# Altium integrated library Xilinx Virtex-II Pro X FPGA.IntLib: 1045 symbols (part 6 of 8)
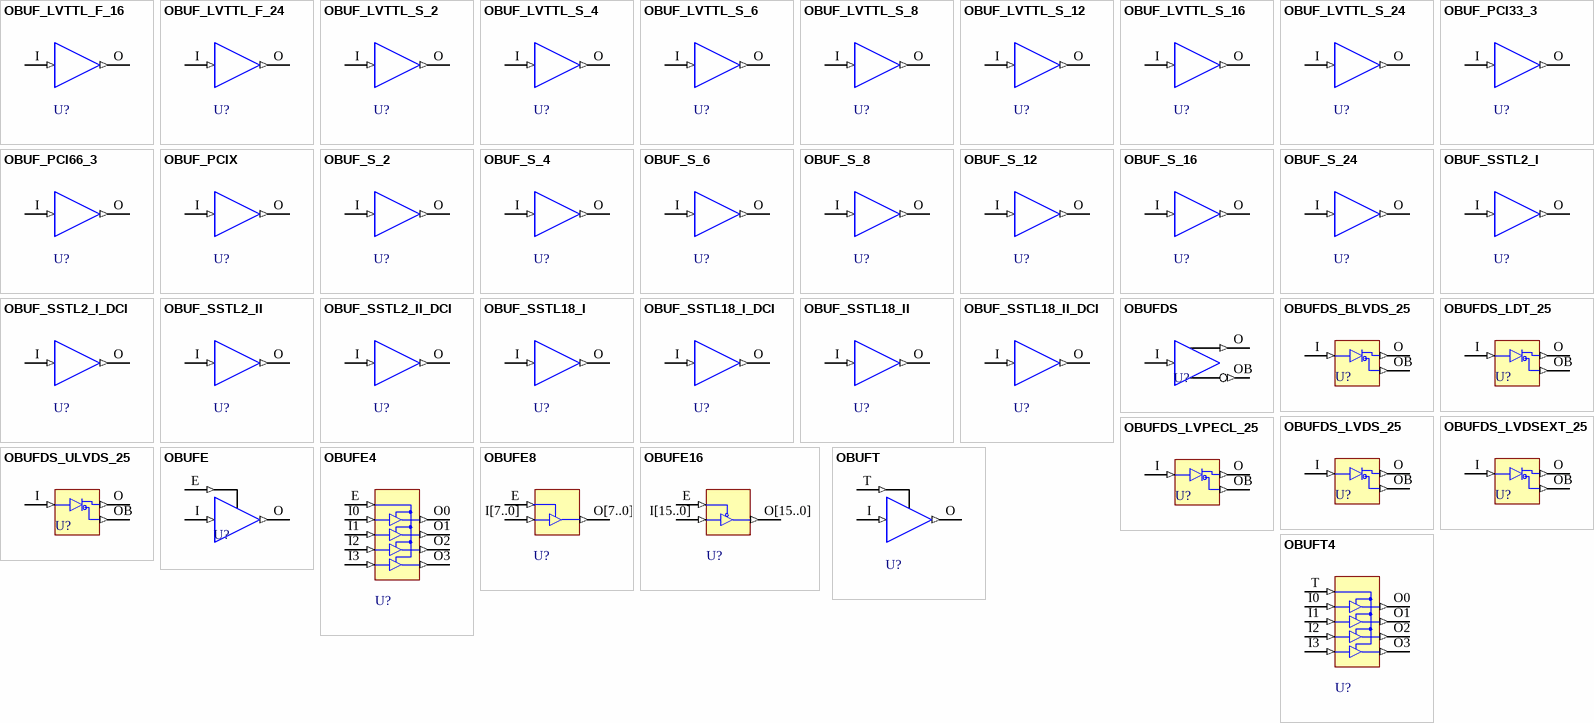
[diagram p40: symbols OBUF_LVTTL_F_16 to OBUFT4]

## OBUF_LVTTL_F_24
designator U?
Output Buffer ( Low Voltage TTL) with a FAST slew and 24mA of drive power.; FPGAVendor: Xilinx; Published: 15-Sep-2003; Publisher: Altium Limited; HelpURL: http://toolbox.xilinx.com/docsan/xilinx7/books/docs/lib/lib.pdf
pins: I (in), O (out)

## OBUF_LVTTL_S_2
designator U?
Output Buffer ( Low Voltage TTL) with a SLOW slew and 2mA of drive power.; FPGAVendor: Xilinx; Published: 15-Sep-2003; Publisher: Altium Limited; HelpURL: http://toolbox.xilinx.com/docsan/xilinx7/books/docs/lib/lib.pdf
pins: I (in), O (out)

## OBUF_LVTTL_S_4
designator U?
Output Buffer ( Low Voltage TTL) with a SLOW slew and 4mA of drive power.; FPGAVendor: Xilinx; Published: 15-Sep-2003; Publisher: Altium Limited; HelpURL: http://toolbox.xilinx.com/docsan/xilinx7/books/docs/lib/lib.pdf
pins: I (in), O (out)

## OBUF_LVTTL_S_6
designator U?
Output Buffer ( Low Voltage TTL) with a SLOW slew and 6mA of drive power.; FPGAVendor: Xilinx; Published: 15-Sep-2003; Publisher: Altium Limited; HelpURL: http://toolbox.xilinx.com/docsan/xilinx7/books/docs/lib/lib.pdf
pins: I (in), O (out)

## OBUF_LVTTL_S_8
designator U?
Output Buffer ( Low Voltage TTL) with a SLOW slew and 8mA of drive power.; FPGAVendor: Xilinx; Published: 15-Sep-2003; Publisher: Altium Limited; HelpURL: http://toolbox.xilinx.com/docsan/xilinx7/books/docs/lib/lib.pdf
pins: I (in), O (out)

## OBUF_LVTTL_S_12
designator U?
Output Buffer ( Low Voltage TTL) with a SLOW slew and 12mA of drive power.; FPGAVendor: Xilinx; Published: 15-Sep-2003; Publisher: Altium Limited; HelpURL: http://toolbox.xilinx.com/docsan/xilinx7/books/docs/lib/lib.pdf
pins: I (in), O (out)

## OBUF_LVTTL_S_16
designator U?
Output Buffer ( Low Voltage TTL) with a SLOW slew and 16mA of drive power.; FPGAVendor: Xilinx; Published: 15-Sep-2003; Publisher: Altium Limited; HelpURL: http://toolbox.xilinx.com/docsan/xilinx7/books/docs/lib/lib.pdf
pins: I (in), O (out)

## OBUF_LVTTL_S_24
designator U?
Output Buffer ( Low Voltage TTL) with a SLOW slew and 24mA of drive power.; FPGAVendor: Xilinx; Published: 15-Sep-2003; Publisher: Altium Limited; HelpURL: http://toolbox.xilinx.com/docsan/xilinx7/books/docs/lib/lib.pdf
pins: I (in), O (out)

## OBUF_PCI33_3
designator U?
Single Output Buffer using the PCI33_3 standard; FPGAVendor: Xilinx; Published: 15-Sep-2003; Publisher: Altium Limited; HelpURL: http://toolbox.xilinx.com/docsan/xilinx7/books/docs/lib/lib.pdf
pins: I (in), O (out)

## OBUF_PCI66_3
designator U?
Single Output Buffer using the PCI66_3 standard; FPGAVendor: Xilinx; Published: 15-Sep-2003; Publisher: Altium Limited; HelpURL: http://toolbox.xilinx.com/docsan/xilinx7/books/docs/lib/lib.pdf
pins: I (in), O (out)

## OBUF_PCIX
designator U?
Output Buffer with Peripheral component interface.  Output VCCO = 3.3; FPGAVendor: Xilinx; Published: 15-Sep-2003; Publisher: Altium Limited; HelpURL: http://toolbox.xilinx.com/docsan/xilinx7/books/docs/lib/lib.pdf
pins: I (in), O (out)

## OBUF_S_2
designator U?
Single Output Buffer using the  LVTTL standard; FPGAVendor: Xilinx; Published: 15-Sep-2003; Publisher: Altium Limited; HelpURL: http://toolbox.xilinx.com/docsan/xilinx7/books/docs/lib/lib.pdf
pins: I (in), O (out)

## OBUF_S_4
designator U?
Single Output Buffer using the LVTTL standard; FPGAVendor: Xilinx; Published: 15-Sep-2003; Publisher: Altium Limited; HelpURL: http://toolbox.xilinx.com/docsan/xilinx7/books/docs/lib/lib.pdf
pins: I (in), O (out)

## OBUF_S_6
designator U?
Single Output Buffer using the LVTTL standard; FPGAVendor: Xilinx; Published: 15-Sep-2003; Publisher: Altium Limited; HelpURL: http://toolbox.xilinx.com/docsan/xilinx7/books/docs/lib/lib.pdf
pins: I (in), O (out)

## OBUF_S_8
designator U?
Single Output Buffer using the LVTTL standard; FPGAVendor: Xilinx; Published: 15-Sep-2003; Publisher: Altium Limited; HelpURL: http://toolbox.xilinx.com/docsan/xilinx7/books/docs/lib/lib.pdf
pins: I (in), O (out)

## OBUF_S_12
designator U?
Single Output Buffer using the LVTTL standard; FPGAVendor: Xilinx; Published: 15-Sep-2003; Publisher: Altium Limited; HelpURL: http://toolbox.xilinx.com/docsan/xilinx7/books/docs/lib/lib.pdf
pins: I (in), O (out)

## OBUF_S_16
designator U?
Single Output Buffer using the LVTTL standard; FPGAVendor: Xilinx; Published: 15-Sep-2003; Publisher: Altium Limited; HelpURL: http://toolbox.xilinx.com/docsan/xilinx7/books/docs/lib/lib.pdf
pins: I (in), O (out)

## OBUF_S_24
designator U?
Single Output Buffer using the LVTTL standard; FPGAVendor: Xilinx; Published: 15-Sep-2003; Publisher: Altium Limited; HelpURL: http://toolbox.xilinx.com/docsan/xilinx7/books/docs/lib/lib.pdf
pins: I (in), O (out)

## OBUF_SSTL2_I
designator U?
Single Output Buffer using the SSTL2_I standard; FPGAVendor: Xilinx; Published: 15-Sep-2003; Publisher: Altium Limited; HelpURL: http://toolbox.xilinx.com/docsan/xilinx7/books/docs/lib/lib.pdf
pins: I (in), O (out)

## OBUF_SSTL2_I_DCI
designator U?
Single Output Buffer with Stub-series terminated logic interface for SDRAM with on-chip Digital Controlled Impedance Input VCCO = 2.5 and output VCCO = 2.5.  VREF = 1.25; FPGAVendor: Xilinx; Published: 15-Sep-2003; Publisher: Altium Limited; HelpURL: http://toolbox.xilinx.com/docsan/xilinx7/books/docs/lib/lib.pdf
pins: I (in), O (out)

## OBUF_SSTL2_II
designator U?
Single Output Buffer using the SSTL2_II standard; FPGAVendor: Xilinx; Published: 15-Sep-2003; Publisher: Altium Limited; HelpURL: http://toolbox.xilinx.com/docsan/xilinx7/books/docs/lib/lib.pdf
pins: I (in), O (out)

## OBUF_SSTL2_II_DCI
designator U?
Single Output Buffer with Stub-series terminated logic interface for SDRAM with on-chip Digital Controlled Impedance Input VCCO = 2.5 and output VCCO = 2.5 and  VREF = 1.25; FPGAVendor: Xilinx; Published: 15-Sep-2003; Publisher: Altium Limited; HelpURL: http://toolbox.xilinx.com/docsan/xilinx7/books/docs/lib/lib.pdf
pins: I (in), O (out)

## OBUF_SSTL18_I
designator U?
Single Output Buffer using the SSTL18_I standard; FPGAVendor: Xilinx; Published: 15-Sep-2003; Publisher: Altium Limited; HelpURL: http://toolbox.xilinx.com/docsan/xilinx7/books/docs/lib/lib.pdf
pins: I (in), O (out)

## OBUF_SSTL18_I_DCI
designator U?
Single Output Buffer using the SSTL18_I_DCI standard; FPGAVendor: Xilinx; Published: 15-Sep-2003; Publisher: Altium Limited; HelpURL: http://toolbox.xilinx.com/docsan/xilinx7/books/docs/lib/lib.pdf
pins: I (in), O (out)

## OBUF_SSTL18_II
designator U?
Single Output Buffer using the SSTL18_II standard; FPGAVendor: Xilinx; Published: 15-Sep-2003; Publisher: Altium Limited; HelpURL: http://toolbox.xilinx.com/docsan/xilinx7/books/docs/lib/lib.pdf
pins: I (in), O (out)

## OBUF_SSTL18_II_DCI
designator U?
Single Output Buffer using the SSTL18_II_DCI standard; FPGAVendor: Xilinx; Published: 15-Sep-2003; Publisher: Altium Limited; HelpURL: http://toolbox.xilinx.com/docsan/xilinx7/books/docs/lib/lib.pdf
pins: I (in), O (out)

## OBUFDS
designator U?
Differential Signaling Output Buffer with Selectable I/O Interface; FPGAVendor: Xilinx; Published: 15-Sep-2003; Publisher: Altium Limited; HelpURL: http://toolbox.xilinx.com/docsan/xilinx7/books/docs/lib/lib.pdf
pins: I (in), O (out), OB (out)

## OBUFDS_BLVDS_25
designator U?
Differential Signaling Output Buffer using the BLVDS_25 Standard; FPGAVendor: Xilinx; Published: 15-Sep-2003; Publisher: Altium Limited; HelpURL: http://toolbox.xilinx.com/docsan/xilinx7/books/docs/lib/lib.pdf
pins: I (in), O (out), OB (out)

## OBUFDS_LDT_25
designator U?
Output Buffer with Lightning Data Transport,  Output VCCO = 2.5; FPGAVendor: Xilinx; Published: 15-Sep-2003; Publisher: Altium Limited; HelpURL: http://toolbox.xilinx.com/docsan/xilinx7/books/docs/lib/lib.pdf
pins: I (in), O (out), OB (out)

## OBUFDS_LVDS_25
designator U?
Differential Signaling Output Buffer with Low Voltage Differential Signal, Output VCCO = 2.5; FPGAVendor: Xilinx; Published: 15-Sep-2003; Publisher: Altium Limited; HelpURL: http://toolbox.xilinx.com/docsan/xilinx7/books/docs/lib/lib.pdf
pins: I (in), O (out), OB (out)

## OBUFDS_LVDSEXT_25
designator U?
Differential Signaling Output Buffer with Extended Low Voltage Differential Signal - Output VCCO = 2.5; FPGAVendor: Xilinx; Published: 15-Sep-2003; Publisher: Altium Limited; HelpURL: http://toolbox.xilinx.com/docsan/xilinx7/books/docs/lib/lib.pdf
pins: I (in), O (out), OB (out)

## OBUFDS_LVPECL_25
designator U?
Differential Signaling Output Buffer using the LVPECL_25 Standard; FPGAVendor: Xilinx; Note: does not apply to Virtex-II PRO and Virtex-II Pro X; Published: 15-Sep-2003; Publisher: Altium Limited; HelpURL: http://toolbox.xilinx.com/docsan/xilinx7/books/docs/lib/lib.pdf
pins: I (in), O (out), OB (out)

## OBUFDS_ULVDS_25
designator U?
Differential Signaling Output Buffer with Ultra Low Voltage Differential Signal - Output VCCO = 2.5; FPGAVendor: Xilinx; Published: 15-Sep-2003; Publisher: Altium Limited; HelpURL: http://toolbox.xilinx.com/docsan/xilinx7/books/docs/lib/lib.pdf
pins: I (in), O (out), OB (out)

## OBUFE
designator U?
3-State Output Buffer with Active-High Output Enable; FPGAVendor: Xilinx; Published: 15-Sep-2003; Publisher: Altium Limited; HelpURL: http://toolbox.xilinx.com/docsan/xilinx7/books/docs/lib/lib.pdf
pins: E (in), I (in), O (out)

## OBUFE4
designator U?
3-State Output Buffers with Active-High Output Enable; FPGAVendor: Xilinx; Published: 15-Sep-2003; Publisher: Altium Limited; HelpURL: http://toolbox.xilinx.com/docsan/xilinx7/books/docs/lib/lib.pdf
pins: E (in), I0 (in), I1 (in), I2 (in), I3 (in), O0 (out), O1 (out), O2 (out), O3 (out)

## OBUFE8
designator U?
3-State Output Buffers with Active-High Output Enable; FPGAVendor: Xilinx; Published: 15-Sep-2003; Publisher: Altium Limited; HelpURL: http://toolbox.xilinx.com/docsan/xilinx7/books/docs/lib/lib.pdf
pins: E (in), I[7..0] (in), O[7..0] (out)

## OBUFE16
designator U?
3-State Output Buffers with Active-High Output Enable; FPGAVendor: Xilinx; Published: 15-Sep-2003; Publisher: Altium Limited; HelpURL: http://toolbox.xilinx.com/docsan/xilinx7/books/docs/lib/lib.pdf
pins: E (in), I[15..0] (in), O[15..0] (out)

## OBUFT
designator U?
Single 3-State Output Buffer with Active-Low Output Enable; FPGAVendor: Xilinx; Published: 15-Sep-2003; Publisher: Altium Limited; HelpURL: http://toolbox.xilinx.com/docsan/xilinx7/books/docs/lib/lib.pdf
pins: I (in), O (out), T (in)

## OBUFT4
designator U?
Multiple 3-State Output Buffers with Active-Low Output Enable; FPGAVendor: Xilinx; Published: 15-Sep-2003; Publisher: Altium Limited; HelpURL: http://toolbox.xilinx.com/docsan/xilinx7/books/docs/lib/lib.pdf
pins: I0 (in), I1 (in), I2 (in), I3 (in), O0 (out), O1 (out), O2 (out), O3 (out), T (in)

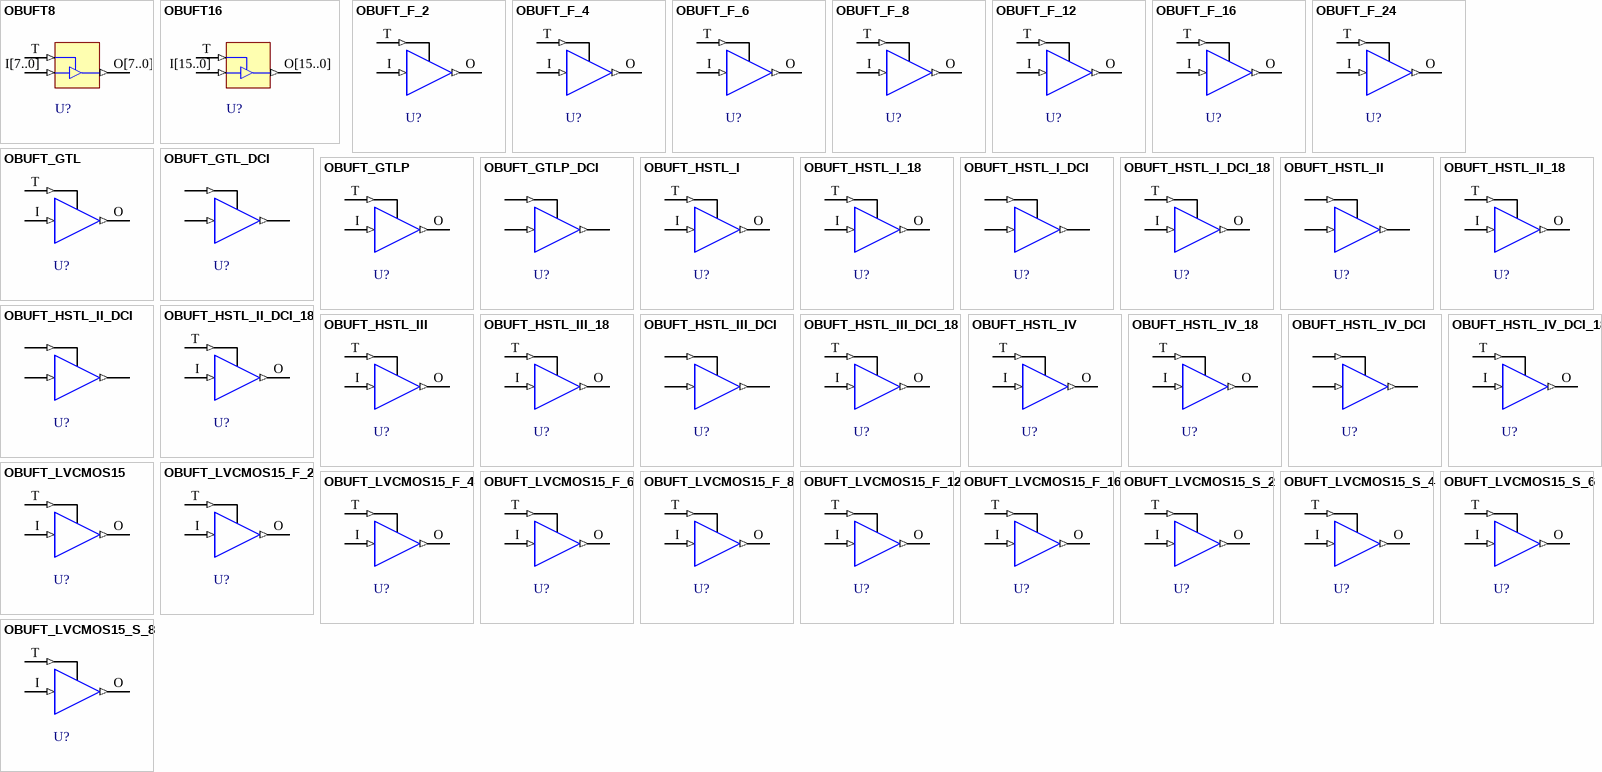
[diagram p27: symbols OBUFT8 to OBUFT_LVCMOS15_S_8]

## OBUFT8
designator U?
Multiple 3-State Output Buffers with Active-Low Output Enable; FPGAVendor: Xilinx; Published: 15-Sep-2003; Publisher: Altium Limited; HelpURL: http://toolbox.xilinx.com/docsan/xilinx7/books/docs/lib/lib.pdf
pins: I[7..0] (in), O[7..0] (out), T (in)

## OBUFT16
designator U?
Multiple 3-State Output Buffers with Active-Low Output Enable; FPGAVendor: Xilinx; Published: 15-Sep-2003; Publisher: Altium Limited; HelpURL: http://toolbox.xilinx.com/docsan/xilinx7/books/docs/lib/lib.pdf
pins: I[15..0] (in), O[15..0] (out), T (in)

## OBUFT_F_2
designator U?
Single 3-State Output Buffer with Active-Low Output Enable using the LVTTL standard; FPGAVendor: Xilinx; Published: 15-Sep-2003; Publisher: Altium Limited; HelpURL: http://toolbox.xilinx.com/docsan/xilinx7/books/docs/lib/lib.pdf
pins: I (in), O (out), T (in)

## OBUFT_F_4
designator U?
Single 3-State Output Buffer with Active-Low Output Enable using the LVTTL standard; FPGAVendor: Xilinx; Published: 15-Sep-2003; Publisher: Altium Limited; HelpURL: http://toolbox.xilinx.com/docsan/xilinx7/books/docs/lib/lib.pdf
pins: I (in), O (out), T (in)

## OBUFT_F_6
designator U?
Single 3-State Output Buffer with Active-Low Output Enable using the LVTTL standard; FPGAVendor: Xilinx; Published: 15-Sep-2003; Publisher: Altium Limited; HelpURL: http://toolbox.xilinx.com/docsan/xilinx7/books/docs/lib/lib.pdf
pins: I (in), O (out), T (in)

## OBUFT_F_8
designator U?
Single 3-State Output Buffer with Active-Low Output Enable using the LVTTL standard; FPGAVendor: Xilinx; Published: 15-Sep-2003; Publisher: Altium Limited; HelpURL: http://toolbox.xilinx.com/docsan/xilinx7/books/docs/lib/lib.pdf
pins: I (in), O (out), T (in)

## OBUFT_F_12
designator U?
Single 3-State Output Buffer with Active-Low Output Enable using the LVTTL standard; FPGAVendor: Xilinx; Published: 15-Sep-2003; Publisher: Altium Limited; HelpURL: http://toolbox.xilinx.com/docsan/xilinx7/books/docs/lib/lib.pdf
pins: I (in), O (out), T (in)

## OBUFT_F_16
designator U?
Single 3-State Output Buffer with Active-Low Output Enable using the LVTTL standard; FPGAVendor: Xilinx; Published: 15-Sep-2003; Publisher: Altium Limited; HelpURL: http://toolbox.xilinx.com/docsan/xilinx7/books/docs/lib/lib.pdf
pins: I (in), O (out), T (in)

## OBUFT_F_24
designator U?
Single 3-State Output Buffer with Active-Low Output Enable using the LVTTL standard; FPGAVendor: Xilinx; Published: 15-Sep-2003; Publisher: Altium Limited; HelpURL: http://toolbox.xilinx.com/docsan/xilinx7/books/docs/lib/lib.pdf
pins: I (in), O (out), T (in)

## OBUFT_GTL
designator U?
Single 3-State Output Buffer with Active-Low Output Enable using the GTL standard; FPGAVendor: Xilinx; Published: 15-Sep-2003; Publisher: Altium Limited; HelpURL: http://toolbox.xilinx.com/docsan/xilinx7/books/docs/lib/lib.pdf
pins: I (in), O (out), T (in)

## OBUFT_GTL_DCI
designator U?
Single 3-State Output Buffer with Active Low Output Enable that uses the LVTTL I/O signaling standard with Gunning transceiver logic interface with on-chip Digital Controlled Impedance; FPGAVendor: Xilinx; Published: 15-Sep-2003; Publisher: Altium Limited; HelpURL: http://toolbox.xilinx.com/docsan/xilinx7/books/docs/lib/lib.pdf
pins: I (in), O (out), T (in)

## OBUFT_GTLP
designator U?
Single 3-State Output Buffer with Active-Low Output Enable using the GTL Plus standard; FPGAVendor: Xilinx; Published: 15-Sep-2003; Publisher: Altium Limited; HelpURL: http://toolbox.xilinx.com/docsan/xilinx7/books/docs/lib/lib.pdf
pins: I (in), O (out), T (in)

## OBUFT_GTLP_DCI
designator U?
Single 3-State Output Buffer with Active Low Output Enable that uses the LVTTL I/O signaling standard with Gunning Transceiver Logic Interface Plus, and on-chip Digital Controlled Impedance; FPGAVendor: Xilinx; Published: 15-Sep-2003; Publisher: Altium Limited; HelpURL: http://toolbox.xilinx.com/docsan/xilinx7/books/docs/lib/lib.pdf
pins: I (in), O (out), T (in)

## OBUFT_HSTL_I
designator U?
Single 3-State Output Buffer with Active-Low Output Enable using the HSTL_I standard; FPGAVendor: Xilinx; Published: 15-Sep-2003; Publisher: Altium Limited; HelpURL: http://toolbox.xilinx.com/docsan/xilinx7/books/docs/lib/lib.pdf
pins: I (in), O (out), T (in)

## OBUFT_HSTL_I_18
designator U?
Single 3-State Output Buffer with Active-Low Output Enable and using the HSTL_I_18 Standard; FPGAVendor: Xilinx; Published: 15-Sep-2003; Publisher: Altium Limited; HelpURL: http://toolbox.xilinx.com/docsan/xilinx7/books/docs/lib/lib.pdf
pins: I (in), O (out), T (in)

## OBUFT_HSTL_I_DCI
designator U?
Single 3-State Output Buffer with High Speed transceiver logic Class I, and on-chip Digital Controlled Impedance; FPGAVendor: Xilinx; Published: 15-Sep-2003; Publisher: Altium Limited; HelpURL: http://toolbox.xilinx.com/docsan/xilinx7/books/docs/lib/lib.pdf
pins: I (in), O (out), T (in)

## OBUFT_HSTL_I_DCI_18
designator U?
Single 3-State Output Buffer with Active-Low Output Enable and using the HSTL_I_DCI_18 Standard; FPGAVendor: Xilinx; Published: 15-Sep-2003; Publisher: Altium Limited; HelpURL: http://toolbox.xilinx.com/docsan/xilinx7/books/docs/lib/lib.pdf
pins: I (in), O (out), T (in)

## OBUFT_HSTL_II
designator U?
Single 3-State Output Buffer with Active Low Output Enable with High Speed transceiver logic Class II; FPGAVendor: Xilinx; Published: 15-Sep-2003; Publisher: Altium Limited; HelpURL: http://toolbox.xilinx.com/docsan/xilinx7/books/docs/lib/lib.pdf
pins: I (in), O (out), T (in)

## OBUFT_HSTL_II_18
designator U?
Single 3-State Output Buffer with Active-Low Output Enable and using the HSTL_II_18 Standard; FPGAVendor: Xilinx; Published: 15-Sep-2003; Publisher: Altium Limited; HelpURL: http://toolbox.xilinx.com/docsan/xilinx7/books/docs/lib/lib.pdf
pins: I (in), O (out), T (in)

## OBUFT_HSTL_II_DCI
designator U?
Single 3-State Output Buffer with Active Low Output Enable, High Speed transceiver logic Class II, and on-chip Digital Controlled Impedance; FPGAVendor: Xilinx; Published: 15-Sep-2003; Publisher: Altium Limited; HelpURL: http://toolbox.xilinx.com/docsan/xilinx7/books/docs/lib/lib.pdf
pins: I (in), O (out), T (in)

## OBUFT_HSTL_II_DCI_18
designator U?
Single 3-State Output Buffer with Active-Low Output Enable and using the HSTL_II_DCI_18 Standard; FPGAVendor: Xilinx; Published: 15-Sep-2003; Publisher: Altium Limited; HelpURL: http://toolbox.xilinx.com/docsan/xilinx7/books/docs/lib/lib.pdf
pins: I (in), O (out), T (in)

## OBUFT_HSTL_III
designator U?
Single 3-State Output Buffer with Active-Low Output Enable using the HSTL_III standard; FPGAVendor: Xilinx; Published: 15-Sep-2003; Publisher: Altium Limited; HelpURL: http://toolbox.xilinx.com/docsan/xilinx7/books/docs/lib/lib.pdf
pins: I (in), O (out), T (in)

## OBUFT_HSTL_III_18
designator U?
Single 3-State Output Buffer with Active-Low Output Enable and using the HSTL_III_18 Standard; FPGAVendor: Xilinx; Published: 15-Sep-2003; Publisher: Altium Limited; HelpURL: http://toolbox.xilinx.com/docsan/xilinx7/books/docs/lib/lib.pdf
pins: I (in), O (out), T (in)

## OBUFT_HSTL_III_DCI
designator U?
Single 3-State Output Buffer with Active Low Output Enable with High Speed transceiver logic Class III, and on-chip Digital Controlled Impedance; FPGAVendor: Xilinx; Published: 15-Sep-2003; Publisher: Altium Limited; HelpURL: http://toolbox.xilinx.com/docsan/xilinx7/books/docs/lib/lib.pdf
pins: I (in), O (out), T (in)

## OBUFT_HSTL_III_DCI_18
designator U?
Single 3-State Output Buffer with Active-Low Output Enable and using the HSTL_III_DCI_18 Standard; FPGAVendor: Xilinx; Published: 15-Sep-2003; Publisher: Altium Limited; HelpURL: http://toolbox.xilinx.com/docsan/xilinx7/books/docs/lib/lib.pdf
pins: I (in), O (out), T (in)

## OBUFT_HSTL_IV
designator U?
Single 3-State Output Buffer with Active-Low Output Enable using the HSTL_IV standard; FPGAVendor: Xilinx; Published: 15-Sep-2003; Publisher: Altium Limited; HelpURL: http://toolbox.xilinx.com/docsan/xilinx7/books/docs/lib/lib.pdf
pins: I (in), O (out), T (in)

## OBUFT_HSTL_IV_18
designator U?
Single 3-State Output Buffer with Active-Low Output Enable and using the HSTL_IV_18 Standard; FPGAVendor: Xilinx; Published: 15-Sep-2003; Publisher: Altium Limited; HelpURL: http://toolbox.xilinx.com/docsan/xilinx7/books/docs/lib/lib.pdf
pins: I (in), O (out), T (in)

## OBUFT_HSTL_IV_DCI
designator U?
Single 3-State Output Buffer with Active Low Output Enable, High Speed transceiver logic Class IV, and on-chip Digital Controlled Impedance; FPGAVendor: Xilinx; Published: 15-Sep-2003; Publisher: Altium Limited; HelpURL: http://toolbox.xilinx.com/docsan/xilinx7/books/docs/lib/lib.pdf
pins: I (in), O (out), T (in)

## OBUFT_HSTL_IV_DCI_18
designator U?
Single 3-State Output Buffer with Active-Low Output Enable and using the HSTL_IV_DCI_18 Standard; FPGAVendor: Xilinx; Published: 15-Sep-2003; Publisher: Altium Limited; HelpURL: http://toolbox.xilinx.com/docsan/xilinx7/books/docs/lib/lib.pdf
pins: I (in), O (out), T (in)

## OBUFT_LVCMOS15
designator U?
Single 3-State Output Buffer with Active-Low Output Enable and using the LVCMOS15 Standard; FPGAVendor: Xilinx; Published: 15-Sep-2003; Publisher: Altium Limited; HelpURL: http://toolbox.xilinx.com/docsan/xilinx7/books/docs/lib/lib.pdf
pins: I (in), O (out), T (in)

## OBUFT_LVCMOS15_F_2
designator U?
Single 3-State Output Buffer with Active-Low Output Enable and using the LVCMOS15_F_2 Standard; FPGAVendor: Xilinx; Published: 15-Sep-2003; Publisher: Altium Limited; HelpURL: http://toolbox.xilinx.com/docsan/xilinx7/books/docs/lib/lib.pdf
pins: I (in), O (out), T (in)

## OBUFT_LVCMOS15_F_4
designator U?
Single 3-State Output Buffer with Active-Low Output Enable and using the LVCMOS15_F_4 Standard; FPGAVendor: Xilinx; Published: 15-Sep-2003; Publisher: Altium Limited; HelpURL: http://toolbox.xilinx.com/docsan/xilinx7/books/docs/lib/lib.pdf
pins: I (in), O (out), T (in)

## OBUFT_LVCMOS15_F_6
designator U?
Single 3-State Output Buffer with Active-Low Output Enable and using the LVCMOS15_F_6 Standard; FPGAVendor: Xilinx; Published: 15-Sep-2003; Publisher: Altium Limited; HelpURL: http://toolbox.xilinx.com/docsan/xilinx7/books/docs/lib/lib.pdf
pins: I (in), O (out), T (in)

## OBUFT_LVCMOS15_F_8
designator U?
Single 3-State Output Buffer with Active-Low Output Enable and using the LVCMOS15_F_8 Standard; FPGAVendor: Xilinx; Published: 15-Sep-2003; Publisher: Altium Limited; HelpURL: http://toolbox.xilinx.com/docsan/xilinx7/books/docs/lib/lib.pdf
pins: I (in), O (out), T (in)

## OBUFT_LVCMOS15_F_12
designator U?
Single 3-State Output Buffer with Active-Low Output Enable and using the LVCMOS15_F_12 Standard; FPGAVendor: Xilinx; Published: 15-Sep-2003; Publisher: Altium Limited; HelpURL: http://toolbox.xilinx.com/docsan/xilinx7/books/docs/lib/lib.pdf
pins: I (in), O (out), T (in)

## OBUFT_LVCMOS15_F_16
designator U?
Single 3-State Output Buffer with Active-Low Output Enable and using the LVCMOS15_F_16 Standard; FPGAVendor: Xilinx; Published: 15-Sep-2003; Publisher: Altium Limited; HelpURL: http://toolbox.xilinx.com/docsan/xilinx7/books/docs/lib/lib.pdf
pins: I (in), O (out), T (in)

## OBUFT_LVCMOS15_S_2
designator U?
Single 3-State Output Buffer with Active-Low Output Enable and using the LVCMOS15_S_2 Standard; FPGAVendor: Xilinx; Published: 15-Sep-2003; Publisher: Altium Limited; HelpURL: http://toolbox.xilinx.com/docsan/xilinx7/books/docs/lib/lib.pdf
pins: I (in), O (out), T (in)

## OBUFT_LVCMOS15_S_4
designator U?
Single 3-State Output Buffer with Active-Low Output Enable and using the LVCMOS15_S_4 Standard; FPGAVendor: Xilinx; Published: 15-Sep-2003; Publisher: Altium Limited; HelpURL: http://toolbox.xilinx.com/docsan/xilinx7/books/docs/lib/lib.pdf
pins: I (in), O (out), T (in)

## OBUFT_LVCMOS15_S_6
designator U?
Single 3-State Output Buffer with Active-Low Output Enable and using the LVCMOS15_S_6 Standard; FPGAVendor: Xilinx; Published: 15-Sep-2003; Publisher: Altium Limited; HelpURL: http://toolbox.xilinx.com/docsan/xilinx7/books/docs/lib/lib.pdf
pins: I (in), O (out), T (in)

## OBUFT_LVCMOS15_S_8
designator U?
Single 3-State Output Buffer with Active-Low Output Enable and using the LVCMOS15_S_8 Standard; FPGAVendor: Xilinx; Published: 15-Sep-2003; Publisher: Altium Limited; HelpURL: http://toolbox.xilinx.com/docsan/xilinx7/books/docs/lib/lib.pdf
pins: I (in), O (out), T (in)

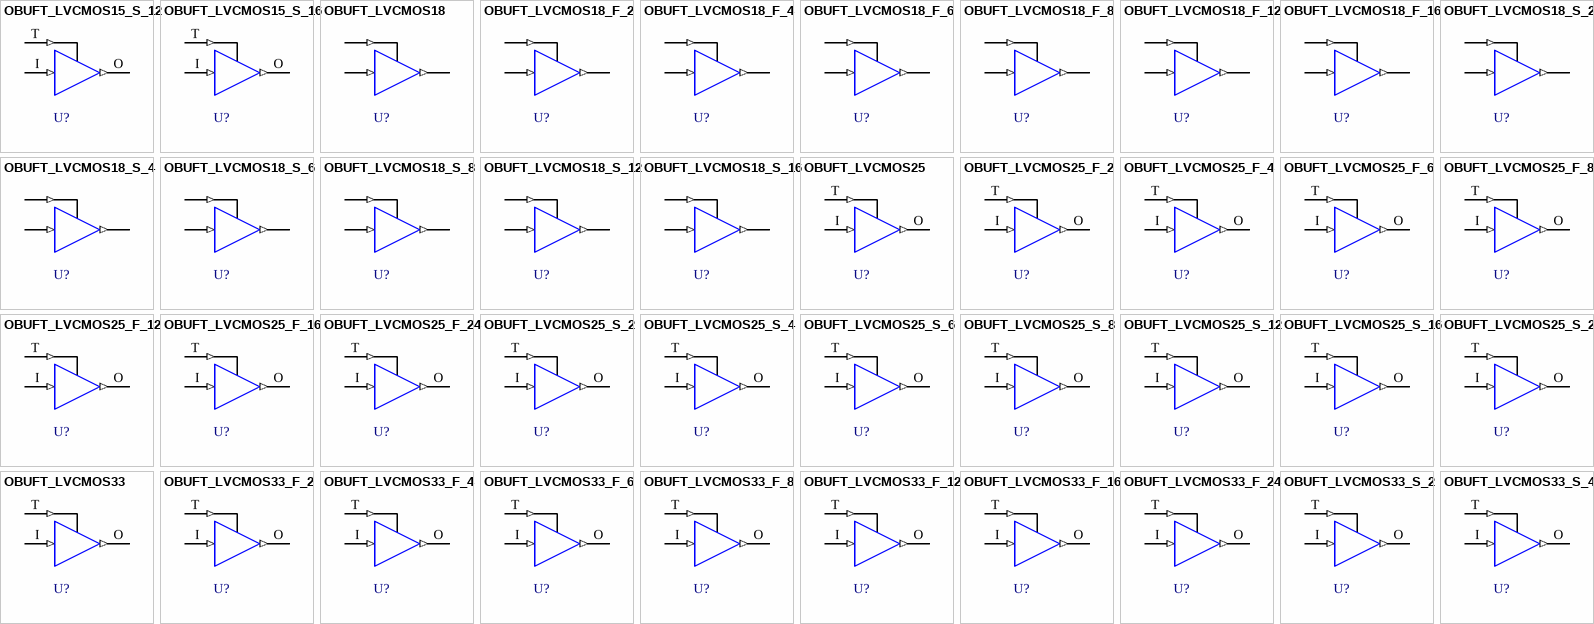
[diagram p28: symbols OBUFT_LVCMOS15_S_12 to OBUFT_LVCMOS33_S_4]

## OBUFT_LVCMOS15_S_12
designator U?
Single 3-State Output Buffer with Active-Low Output Enable and using the LVCMOS15_S_12 Standard; FPGAVendor: Xilinx; Published: 15-Sep-2003; Publisher: Altium Limited; HelpURL: http://toolbox.xilinx.com/docsan/xilinx7/books/docs/lib/lib.pdf
pins: I (in), O (out), T (in)

## OBUFT_LVCMOS15_S_16
designator U?
Single 3-State Output Buffer with Active-Low Output Enable and using the LVCMOS15_S_16 Standard; FPGAVendor: Xilinx; Published: 15-Sep-2003; Publisher: Altium Limited; HelpURL: http://toolbox.xilinx.com/docsan/xilinx7/books/docs/lib/lib.pdf
pins: I (in), O (out), T (in)

## OBUFT_LVCMOS18
designator U?
Single 3-State (LVCMOS) Output Buffer with Active Low Output Enable, with output VCCO = 1.8; FPGAVendor: Xilinx; Published: 15-Sep-2003; Publisher: Altium Limited; HelpURL: http://toolbox.xilinx.com/docsan/xilinx7/books/docs/lib/lib.pdf
pins: I (in), O (out), T (in)

## OBUFT_LVCMOS18_F_2
designator U?
Single 3-State (LVCMOS) Output Buffer with Active Low Output Enable, with a FAST slew and 2mA of drive power. (input VCCO = 1.8 and output VCCO = 1.8); FPGAVendor: Xilinx; Published: 15-Sep-2003; Publisher: Altium Limited; HelpURL: http://toolbox.xilinx.com/docsan/xilinx7/books/docs/lib/lib.pdf
pins: I (in), O (out), T (in)

## OBUFT_LVCMOS18_F_4
designator U?
Single 3-State (LVCMOS) Output Buffer with Active Low Output Enable, with a FAST slew and 4mA of drive power. (input VCCO = 1.8 and output VCCO = 1.8); FPGAVendor: Xilinx; Published: 15-Sep-2003; Publisher: Altium Limited; HelpURL: http://toolbox.xilinx.com/docsan/xilinx7/books/docs/lib/lib.pdf
pins: I (in), O (out), T (in)

## OBUFT_LVCMOS18_F_6
designator U?
Single 3-State (LVCMOS) Output Buffer with Active Low Output Enable, with a FAST slew and 6mA of drive power. (input VCCO = 1.8 and output VCCO = 1.8); FPGAVendor: Xilinx; Published: 15-Sep-2003; Publisher: Altium Limited; HelpURL: http://toolbox.xilinx.com/docsan/xilinx7/books/docs/lib/lib.pdf
pins: I (in), O (out), T (in)

## OBUFT_LVCMOS18_F_8
designator U?
Single 3-State (LVCMOS) Output Buffer with Active Low Output Enable, with a FAST slew and 8mA of drive power. (input VCCO = 1.8 and output VCCO = 1.8); FPGAVendor: Xilinx; Published: 15-Sep-2003; Publisher: Altium Limited; HelpURL: http://toolbox.xilinx.com/docsan/xilinx7/books/docs/lib/lib.pdf
pins: I (in), O (out), T (in)

## OBUFT_LVCMOS18_F_12
designator U?
Single 3-State (LVCMOS) Output Buffer with Active Low Output Enable, with a FAST slew and 12mA of drive power. (input VCCO = 1.8 and output VCCO = 1.8); FPGAVendor: Xilinx; Published: 15-Sep-2003; Publisher: Altium Limited; HelpURL: http://toolbox.xilinx.com/docsan/xilinx7/books/docs/lib/lib.pdf
pins: I (in), O (out), T (in)

## OBUFT_LVCMOS18_F_16
designator U?
Single 3-State (LVCMOS) Output Buffer with Active Low Output Enable, with a FAST slew and 16mA of drive power. (input VCCO = 1.8 and output VCCO = 1.8); FPGAVendor: Xilinx; Published: 15-Sep-2003; Publisher: Altium Limited; HelpURL: http://toolbox.xilinx.com/docsan/xilinx7/books/docs/lib/lib.pdf
pins: I (in), O (out), T (in)

## OBUFT_LVCMOS18_S_2
designator U?
Single 3-State (LVCMOS) Output Buffer with Active Low Output Enable, with a SLOW slew and 2mA of drive power. (input VCCO = 1.8 and output VCCO = 1.8); FPGAVendor: Xilinx; Published: 15-Sep-2003; Publisher: Altium Limited; HelpURL: http://toolbox.xilinx.com/docsan/xilinx7/books/docs/lib/lib.pdf
pins: I (in), O (out), T (in)

## OBUFT_LVCMOS18_S_4
designator U?
Single 3-State (LVCMOS) Output Buffer with Active Low Output Enable, with a SLOW slew and 4mA of drive power. (input VCCO = 1.8 and output VCCO = 1.8); FPGAVendor: Xilinx; Published: 15-Sep-2003; Publisher: Altium Limited; HelpURL: http://toolbox.xilinx.com/docsan/xilinx7/books/docs/lib/lib.pdf
pins: I (in), O (out), T (in)

## OBUFT_LVCMOS18_S_6
designator U?
Single 3-State (LVCMOS) Output Buffer with Active Low Output Enable, with a SLOW slew and 6mA of drive power. (input VCCO = 1.8 and output VCCO = 1.8); FPGAVendor: Xilinx; Published: 15-Sep-2003; Publisher: Altium Limited; HelpURL: http://toolbox.xilinx.com/docsan/xilinx7/books/docs/lib/lib.pdf
pins: I (in), O (out), T (in)

## OBUFT_LVCMOS18_S_8
designator U?
Single 3-State (LVCMOS) Output Buffer with Active Low Output Enable, with a SLOW slew and 8mA of drive power. (input VCCO = 1.8 and output VCCO = 1.8); FPGAVendor: Xilinx; Published: 15-Sep-2003; Publisher: Altium Limited; HelpURL: http://toolbox.xilinx.com/docsan/xilinx7/books/docs/lib/lib.pdf
pins: I (in), O (out), T (in)

## OBUFT_LVCMOS18_S_12
designator U?
Single 3-State (LVCMOS) Output Buffer with Active Low Output Enable, with a SLOW slew and 12mA of drive power. (input VCCO = 1.8 and output VCCO = 1.8); FPGAVendor: Xilinx; Published: 15-Sep-2003; Publisher: Altium Limited; HelpURL: http://toolbox.xilinx.com/docsan/xilinx7/books/docs/lib/lib.pdf
pins: I (in), O (out), T (in)

## OBUFT_LVCMOS18_S_16
designator U?
Single 3-State (LVCMOS) Output Buffer with Active Low Output Enable, with a SLOW slew and 16mA of drive power. (input VCCO = 1.8 and output VCCO = 1.8); FPGAVendor: Xilinx; Published: 15-Sep-2003; Publisher: Altium Limited; HelpURL: http://toolbox.xilinx.com/docsan/xilinx7/books/docs/lib/lib.pdf
pins: I (in), O (out), T (in)

## OBUFT_LVCMOS25
designator U?
Single 3-State Output Buffer with Active-Low Output Enable and using the LVCMOS25 Standard; FPGAVendor: Xilinx; Published: 15-Sep-2003; Publisher: Altium Limited; HelpURL: http://toolbox.xilinx.com/docsan/xilinx7/books/docs/lib/lib.pdf
pins: I (in), O (out), T (in)

## OBUFT_LVCMOS25_F_2
designator U?
Single 3-State Output Buffer with Active-Low Output Enable and using the LVCMOS25_F_2 Standard; FPGAVendor: Xilinx; Published: 15-Sep-2003; Publisher: Altium Limited; HelpURL: http://toolbox.xilinx.com/docsan/xilinx7/books/docs/lib/lib.pdf
pins: I (in), O (out), T (in)

## OBUFT_LVCMOS25_F_4
designator U?
Single 3-State Output Buffer with Active-Low Output Enable and using the LVCMOS25_F_4 Standard; FPGAVendor: Xilinx; Published: 15-Sep-2003; Publisher: Altium Limited; HelpURL: http://toolbox.xilinx.com/docsan/xilinx7/books/docs/lib/lib.pdf
pins: I (in), O (out), T (in)

## OBUFT_LVCMOS25_F_6
designator U?
Single 3-State Output Buffer with Active-Low Output Enable and using the LVCMOS25_F_6 Standard; FPGAVendor: Xilinx; Published: 15-Sep-2003; Publisher: Altium Limited; HelpURL: http://toolbox.xilinx.com/docsan/xilinx7/books/docs/lib/lib.pdf
pins: I (in), O (out), T (in)

## OBUFT_LVCMOS25_F_8
designator U?
Single 3-State Output Buffer with Active-Low Output Enable and using the LVCMOS25_F_8 Standard; FPGAVendor: Xilinx; Published: 15-Sep-2003; Publisher: Altium Limited; HelpURL: http://toolbox.xilinx.com/docsan/xilinx7/books/docs/lib/lib.pdf
pins: I (in), O (out), T (in)

## OBUFT_LVCMOS25_F_12
designator U?
Single 3-State Output Buffer with Active-Low Output Enable and using the LVCMOS25_F_12 Standard; FPGAVendor: Xilinx; Published: 15-Sep-2003; Publisher: Altium Limited; HelpURL: http://toolbox.xilinx.com/docsan/xilinx7/books/docs/lib/lib.pdf
pins: I (in), O (out), T (in)

## OBUFT_LVCMOS25_F_16
designator U?
Single 3-State Output Buffer with Active-Low Output Enable and using the LVCMOS25_F_16 Standard; FPGAVendor: Xilinx; Published: 15-Sep-2003; Publisher: Altium Limited; HelpURL: http://toolbox.xilinx.com/docsan/xilinx7/books/docs/lib/lib.pdf
pins: I (in), O (out), T (in)

## OBUFT_LVCMOS25_F_24
designator U?
Single 3-State Output Buffer with Active-Low Output Enable and using the LVCMOS25_F_24 Standard; FPGAVendor: Xilinx; Published: 15-Sep-2003; Publisher: Altium Limited; HelpURL: http://toolbox.xilinx.com/docsan/xilinx7/books/docs/lib/lib.pdf
pins: I (in), O (out), T (in)

## OBUFT_LVCMOS25_S_2
designator U?
Single 3-State Output Buffer with Active-Low Output Enable and using the LVCMOS25_S_2 Standard; FPGAVendor: Xilinx; Published: 15-Sep-2003; Publisher: Altium Limited; HelpURL: http://toolbox.xilinx.com/docsan/xilinx7/books/docs/lib/lib.pdf
pins: I (in), O (out), T (in)

## OBUFT_LVCMOS25_S_4
designator U?
Single 3-State Output Buffer with Active-Low Output Enable and using the LVCMOS25_S_4 Standard; FPGAVendor: Xilinx; Published: 15-Sep-2003; Publisher: Altium Limited; HelpURL: http://toolbox.xilinx.com/docsan/xilinx7/books/docs/lib/lib.pdf
pins: I (in), O (out), T (in)

## OBUFT_LVCMOS25_S_6
designator U?
Single 3-State Output Buffer with Active-Low Output Enable and using the LVCMOS25_S_6 Standard; FPGAVendor: Xilinx; Published: 15-Sep-2003; Publisher: Altium Limited; HelpURL: http://toolbox.xilinx.com/docsan/xilinx7/books/docs/lib/lib.pdf
pins: I (in), O (out), T (in)

## OBUFT_LVCMOS25_S_8
designator U?
Single 3-State Output Buffer with Active-Low Output Enable and using the LVCMOS25_S_8 Standard; FPGAVendor: Xilinx; Published: 15-Sep-2003; Publisher: Altium Limited; HelpURL: http://toolbox.xilinx.com/docsan/xilinx7/books/docs/lib/lib.pdf
pins: I (in), O (out), T (in)

## OBUFT_LVCMOS25_S_12
designator U?
Single 3-State Output Buffer with Active-Low Output Enable and using the LVCMOS25_S_12 Standard; FPGAVendor: Xilinx; Published: 15-Sep-2003; Publisher: Altium Limited; HelpURL: http://toolbox.xilinx.com/docsan/xilinx7/books/docs/lib/lib.pdf
pins: I (in), O (out), T (in)

## OBUFT_LVCMOS25_S_16
designator U?
Single 3-State Output Buffer with Active-Low Output Enable and using the LVCMOS25_S_16 Standard; FPGAVendor: Xilinx; Published: 15-Sep-2003; Publisher: Altium Limited; HelpURL: http://toolbox.xilinx.com/docsan/xilinx7/books/docs/lib/lib.pdf
pins: I (in), O (out), T (in)

## OBUFT_LVCMOS25_S_24
designator U?
Single 3-State Output Buffer with Active-Low Output Enable and using the LVCMOS25_S_24 Standard; FPGAVendor: Xilinx; Published: 15-Sep-2003; Publisher: Altium Limited; HelpURL: http://toolbox.xilinx.com/docsan/xilinx7/books/docs/lib/lib.pdf
pins: I (in), O (out), T (in)

## OBUFT_LVCMOS33
designator U?
Single 3-State Output Buffer with Active-Low Output Enable and using the LVCMOS33 Standard; FPGAVendor: Xilinx; Published: 15-Sep-2003; Publisher: Altium Limited; HelpURL: http://toolbox.xilinx.com/docsan/xilinx7/books/docs/lib/lib.pdf
pins: I (in), O (out), T (in)

## OBUFT_LVCMOS33_F_2
designator U?
Single 3-State Output Buffer with Active-Low Output Enable and using the LVCMOS33_F_2 Standard; FPGAVendor: Xilinx; Published: 15-Sep-2003; Publisher: Altium Limited; HelpURL: http://toolbox.xilinx.com/docsan/xilinx7/books/docs/lib/lib.pdf
pins: I (in), O (out), T (in)

## OBUFT_LVCMOS33_F_4
designator U?
Single 3-State Output Buffer with Active-Low Output Enable and using the LVCMOS33_F_4 Standard; FPGAVendor: Xilinx; Published: 15-Sep-2003; Publisher: Altium Limited; HelpURL: http://toolbox.xilinx.com/docsan/xilinx7/books/docs/lib/lib.pdf
pins: I (in), O (out), T (in)

## OBUFT_LVCMOS33_F_6
designator U?
Single 3-State Output Buffer with Active-Low Output Enable and using the LVCMOS33_F_6 Standard; FPGAVendor: Xilinx; Published: 15-Sep-2003; Publisher: Altium Limited; HelpURL: http://toolbox.xilinx.com/docsan/xilinx7/books/docs/lib/lib.pdf
pins: I (in), O (out), T (in)

## OBUFT_LVCMOS33_F_8
designator U?
Single 3-State Output Buffer with Active-Low Output Enable and using the LVCMOS33_F_8 Standard; FPGAVendor: Xilinx; Published: 15-Sep-2003; Publisher: Altium Limited; HelpURL: http://toolbox.xilinx.com/docsan/xilinx7/books/docs/lib/lib.pdf
pins: I (in), O (out), T (in)

## OBUFT_LVCMOS33_F_12
designator U?
Single 3-State Output Buffer with Active-Low Output Enable and using the LVCMOS33_F_12 Standard; FPGAVendor: Xilinx; Published: 15-Sep-2003; Publisher: Altium Limited; HelpURL: http://toolbox.xilinx.com/docsan/xilinx7/books/docs/lib/lib.pdf
pins: I (in), O (out), T (in)

## OBUFT_LVCMOS33_F_16
designator U?
Single 3-State Output Buffer with Active-Low Output Enable and using the LVCMOS33_F_16 Standard; FPGAVendor: Xilinx; Published: 15-Sep-2003; Publisher: Altium Limited; HelpURL: http://toolbox.xilinx.com/docsan/xilinx7/books/docs/lib/lib.pdf
pins: I (in), O (out), T (in)

## OBUFT_LVCMOS33_F_24
designator U?
Single 3-State Output Buffer with Active-Low Output Enable and using the LVCMOS33_F_24 Standard; FPGAVendor: Xilinx; Published: 15-Sep-2003; Publisher: Altium Limited; HelpURL: http://toolbox.xilinx.com/docsan/xilinx7/books/docs/lib/lib.pdf
pins: I (in), O (out), T (in)

## OBUFT_LVCMOS33_S_2
designator U?
Single 3-State Output Buffer with Active-Low Output Enable and using the LVCMOS33_S_2 Standard; FPGAVendor: Xilinx; Published: 15-Sep-2003; Publisher: Altium Limited; HelpURL: http://toolbox.xilinx.com/docsan/xilinx7/books/docs/lib/lib.pdf
pins: I (in), O (out), T (in)

## OBUFT_LVCMOS33_S_4
designator U?
Single 3-State Output Buffer with Active-Low Output Enable and using the LVCMOS33_S_4 Standard; FPGAVendor: Xilinx; Published: 15-Sep-2003; Publisher: Altium Limited; HelpURL: http://toolbox.xilinx.com/docsan/xilinx7/books/docs/lib/lib.pdf
pins: I (in), O (out), T (in)

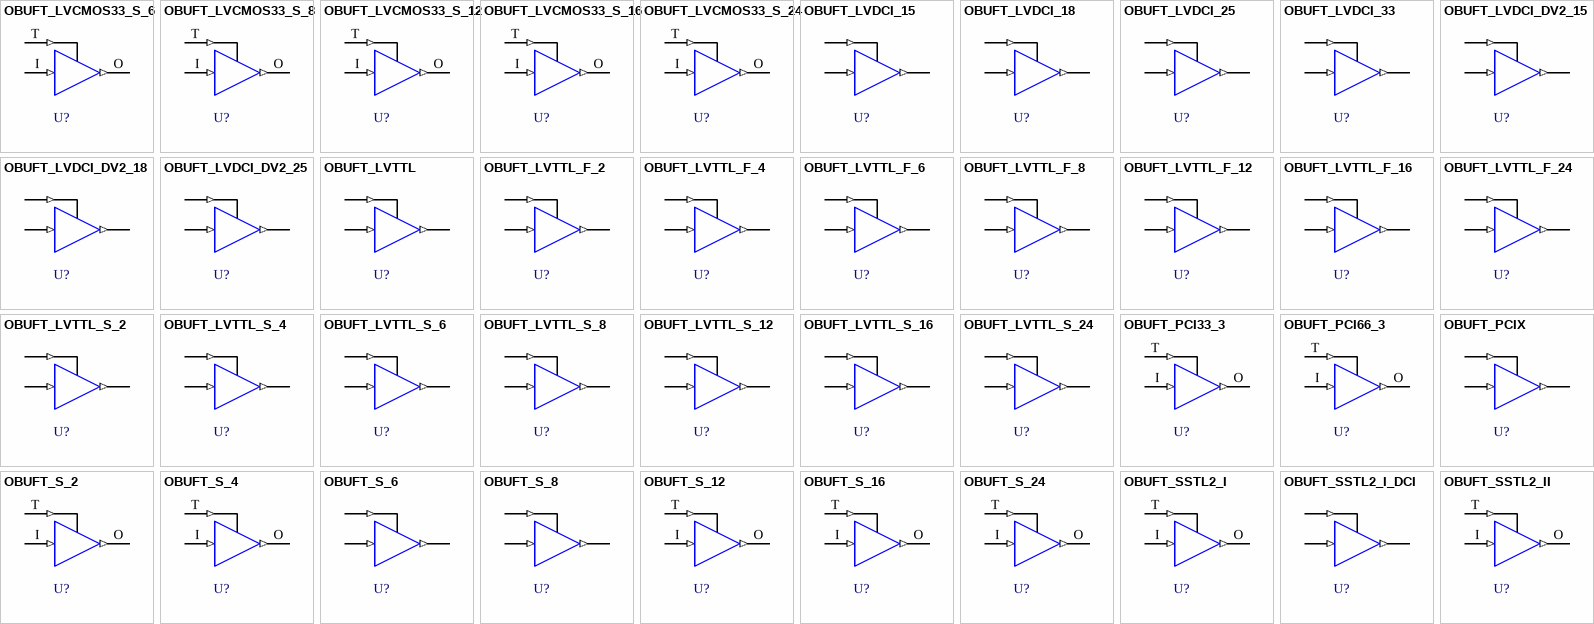
[diagram p29: symbols OBUFT_LVCMOS33_S_6 to OBUFT_SSTL2_II]

## OBUFT_LVCMOS33_S_6
designator U?
Single 3-State Output Buffer with Active-Low Output Enable and using the LVCMOS33_S_6 Standard; FPGAVendor: Xilinx; Published: 15-Sep-2003; Publisher: Altium Limited; HelpURL: http://toolbox.xilinx.com/docsan/xilinx7/books/docs/lib/lib.pdf
pins: I (in), O (out), T (in)

## OBUFT_LVCMOS33_S_8
designator U?
Single 3-State Output Buffer with Active-Low Output Enable and using the LVCMOS33_S_8 Standard; FPGAVendor: Xilinx; Published: 15-Sep-2003; Publisher: Altium Limited; HelpURL: http://toolbox.xilinx.com/docsan/xilinx7/books/docs/lib/lib.pdf
pins: I (in), O (out), T (in)

## OBUFT_LVCMOS33_S_12
designator U?
Single 3-State Output Buffer with Active-Low Output Enable and using the LVCMOS33_S_12 Standard; FPGAVendor: Xilinx; Published: 15-Sep-2003; Publisher: Altium Limited; HelpURL: http://toolbox.xilinx.com/docsan/xilinx7/books/docs/lib/lib.pdf
pins: I (in), O (out), T (in)

## OBUFT_LVCMOS33_S_16
designator U?
Single 3-State Output Buffer with Active-Low Output Enable and using the LVCMOS33_S_16 Standard; FPGAVendor: Xilinx; Published: 15-Sep-2003; Publisher: Altium Limited; HelpURL: http://toolbox.xilinx.com/docsan/xilinx7/books/docs/lib/lib.pdf
pins: I (in), O (out), T (in)

## OBUFT_LVCMOS33_S_24
designator U?
Single 3-State Output Buffer with Active-Low Output Enable and using the LVCMOS33_S_24 Standard; FPGAVendor: Xilinx; Published: 15-Sep-2003; Publisher: Altium Limited; HelpURL: http://toolbox.xilinx.com/docsan/xilinx7/books/docs/lib/lib.pdf
pins: I (in), O (out), T (in)

## OBUFT_LVDCI_15
designator U?
Single 3-State Output Buffer with Active-Low Output Enable, Low Voltage on-chip Digital Controlled Impedance, Output VCCO = 1.5; FPGAVendor: Xilinx; Published: 15-Sep-2003; Publisher: Altium Limited; HelpURL: http://toolbox.xilinx.com/docsan/xilinx7/books/docs/lib/lib.pdf
pins: I (in), O (out), T (in)

## OBUFT_LVDCI_18
designator U?
Single 3-State Output Buffer with Active-Low Output Enable, Low Voltage on-chip Digital Controlled Impedance, Output VCCO = 1.8; FPGAVendor: Xilinx; Published: 15-Sep-2003; Publisher: Altium Limited; HelpURL: http://toolbox.xilinx.com/docsan/xilinx7/books/docs/lib/lib.pdf
pins: I (in), O (out), T (in)

## OBUFT_LVDCI_25
designator U?
Single 3-State Output Buffer with Active-Low Output Enable, Low Voltage on-chip Digital Controlled Impedance, Output VCCO = 2.5; FPGAVendor: Xilinx; Published: 15-Sep-2003; Publisher: Altium Limited; HelpURL: http://toolbox.xilinx.com/docsan/xilinx7/books/docs/lib/lib.pdf
pins: I (in), O (out), T (in)

## OBUFT_LVDCI_33
designator U?
Single 3-State Output Buffer with Active-Low Output Enable, Low Voltage on-chip Digital Controlled Impedance, Output VCCO = 3.3; FPGAVendor: Xilinx; Published: 15-Sep-2003; Publisher: Altium Limited; HelpURL: http://toolbox.xilinx.com/docsan/xilinx7/books/docs/lib/lib.pdf
pins: I (in), O (out), T (in)

## OBUFT_LVDCI_DV2_15
designator U?
Single 3-State Output Buffer with Active-Low Output Enable, Low Voltage on-chip Digital Controlled Impedance, with output VCCO = 1.5; FPGAVendor: Xilinx; Published: 15-Sep-2003; Publisher: Altium Limited; HelpURL: http://toolbox.xilinx.com/docsan/xilinx7/books/docs/lib/lib.pdf
pins: I (in), O (out), T (in)

## OBUFT_LVDCI_DV2_18
designator U?
Single 3-State Output Buffer with Active-Low Output Enable, Low Voltage on-chip Digital Controlled Impedance, with output VCCO = 1.8; FPGAVendor: Xilinx; Published: 15-Sep-2003; Publisher: Altium Limited; HelpURL: http://toolbox.xilinx.com/docsan/xilinx7/books/docs/lib/lib.pdf
pins: I (in), O (out), T (in)

## OBUFT_LVDCI_DV2_25
designator U?
Single 3-State Output Buffer with Active-Low Output Enable, Low Voltage on-chip Digital Controlled Impedance, with output VCCO = 2.5; FPGAVendor: Xilinx; Published: 15-Sep-2003; Publisher: Altium Limited; HelpURL: http://toolbox.xilinx.com/docsan/xilinx7/books/docs/lib/lib.pdf
pins: I (in), O (out), T (in)

## OBUFT_LVTTL
designator U?
Single 3-State Output Buffer with Active-Low Output Enable, Low voltage TTL, Output VCCO = 3.3; FPGAVendor: Xilinx; Published: 15-Sep-2003; Publisher: Altium Limited; HelpURL: http://toolbox.xilinx.com/docsan/xilinx7/books/docs/lib/lib.pdf
pins: I (in), O (out), T (in)

## OBUFT_LVTTL_F_2
designator U?
Single 3-State Output Buffer with Active-Low Output Enable, ( Low Voltage TTL) with a FAST slew and 2mA of drive power.; FPGAVendor: Xilinx; Published: 15-Sep-2003; Publisher: Altium Limited; HelpURL: http://toolbox.xilinx.com/docsan/xilinx7/books/docs/lib/lib.pdf
pins: I (in), O (out), T (in)

## OBUFT_LVTTL_F_4
designator U?
Single 3-State Output Buffer with Active-Low Output Enable, ( Low Voltage TTL) with a FAST slew and 4mA of drive power.; FPGAVendor: Xilinx; Published: 15-Sep-2003; Publisher: Altium Limited; HelpURL: http://toolbox.xilinx.com/docsan/xilinx7/books/docs/lib/lib.pdf
pins: I (in), O (out), T (in)

## OBUFT_LVTTL_F_6
designator U?
Single 3-State Output Buffer with Active-Low Output Enable, ( Low Voltage TTL) with a FAST slew and 6mA of drive power.; FPGAVendor: Xilinx; Published: 15-Sep-2003; Publisher: Altium Limited; HelpURL: http://toolbox.xilinx.com/docsan/xilinx7/books/docs/lib/lib.pdf
pins: I (in), O (out), T (in)

## OBUFT_LVTTL_F_8
designator U?
Single 3-State Output Buffer with Active-Low Output Enable, ( Low Voltage TTL) with a FAST slew and 8mA of drive power.; FPGAVendor: Xilinx; Published: 15-Sep-2003; Publisher: Altium Limited; HelpURL: http://toolbox.xilinx.com/docsan/xilinx7/books/docs/lib/lib.pdf
pins: I (in), O (out), T (in)

## OBUFT_LVTTL_F_12
designator U?
Single 3-State Output Buffer with Active-Low Output Enable, ( Low Voltage TTL) with a FAST slew and 12mA of drive power.; FPGAVendor: Xilinx; Published: 15-Sep-2003; Publisher: Altium Limited; HelpURL: http://toolbox.xilinx.com/docsan/xilinx7/books/docs/lib/lib.pdf
pins: I (in), O (out), T (in)

## OBUFT_LVTTL_F_16
designator U?
Single 3-State Output Buffer with Active-Low Output Enable, ( Low Voltage TTL) with a FAST slew and 16mA of drive power.; FPGAVendor: Xilinx; Published: 15-Sep-2003; Publisher: Altium Limited; HelpURL: http://toolbox.xilinx.com/docsan/xilinx7/books/docs/lib/lib.pdf
pins: I (in), O (out), T (in)

## OBUFT_LVTTL_F_24
designator U?
Single 3-State Output Buffer with Active-Low Output Enable, ( Low Voltage TTL) with a FAST slew and 24mA of drive power.; FPGAVendor: Xilinx; Published: 15-Sep-2003; Publisher: Altium Limited; HelpURL: http://toolbox.xilinx.com/docsan/xilinx7/books/docs/lib/lib.pdf
pins: I (in), O (out), T (in)

## OBUFT_LVTTL_S_2
designator U?
Single 3-State Output Buffer with Active-Low Output Enable, ( Low Voltage TTL) with a SLOW slew and 2mA of drive power.; FPGAVendor: Xilinx; Published: 15-Sep-2003; Publisher: Altium Limited; HelpURL: http://toolbox.xilinx.com/docsan/xilinx7/books/docs/lib/lib.pdf
pins: I (in), O (out), T (in)

## OBUFT_LVTTL_S_4
designator U?
Single 3-State Output Buffer with Active-Low Output Enable, ( Low Voltage TTL) with a SLOW slew and 4mA of drive power.; FPGAVendor: Xilinx; Published: 15-Sep-2003; Publisher: Altium Limited; HelpURL: http://toolbox.xilinx.com/docsan/xilinx7/books/docs/lib/lib.pdf
pins: I (in), O (out), T (in)

## OBUFT_LVTTL_S_6
designator U?
Single 3-State Output Buffer with Active-Low Output Enable, ( Low Voltage TTL) with a SLOW slew and 6mA of drive power.; FPGAVendor: Xilinx; Published: 15-Sep-2003; Publisher: Altium Limited; HelpURL: http://toolbox.xilinx.com/docsan/xilinx7/books/docs/lib/lib.pdf
pins: I (in), O (out), T (in)

## OBUFT_LVTTL_S_8
designator U?
Single 3-State Output Buffer with Active-Low Output Enable, ( Low Voltage TTL) with a SLOW slew and 8mA of drive power.; FPGAVendor: Xilinx; Published: 15-Sep-2003; Publisher: Altium Limited; HelpURL: http://toolbox.xilinx.com/docsan/xilinx7/books/docs/lib/lib.pdf
pins: I (in), O (out), T (in)

## OBUFT_LVTTL_S_12
designator U?
Single 3-State Output Buffer with Active-Low Output Enable, ( Low Voltage TTL) with a SLOW slew and 12mA of drive power.; FPGAVendor: Xilinx; Published: 15-Sep-2003; Publisher: Altium Limited; HelpURL: http://toolbox.xilinx.com/docsan/xilinx7/books/docs/lib/lib.pdf
pins: I (in), O (out), T (in)

## OBUFT_LVTTL_S_16
designator U?
Single 3-State Output Buffer with Active-Low Output Enable, ( Low Voltage TTL) with a SLOW slew and 16mA of drive power.; FPGAVendor: Xilinx; Published: 15-Sep-2003; Publisher: Altium Limited; HelpURL: http://toolbox.xilinx.com/docsan/xilinx7/books/docs/lib/lib.pdf
pins: I (in), O (out), T (in)

## OBUFT_LVTTL_S_24
designator U?
Single 3-State Output Buffer with Active-Low Output Enable, ( Low Voltage TTL) with a SLOW slew and 24mA of drive power.; FPGAVendor: Xilinx; Published: 15-Sep-2003; Publisher: Altium Limited; HelpURL: http://toolbox.xilinx.com/docsan/xilinx7/books/docs/lib/lib.pdf
pins: I (in), O (out), T (in)

## OBUFT_PCI33_3
designator U?
Single 3-State Output Buffer with Active-Low Output Enable using the PCI33_3 standard; FPGAVendor: Xilinx; Published: 15-Sep-2003; Publisher: Altium Limited; HelpURL: http://toolbox.xilinx.com/docsan/xilinx7/books/docs/lib/lib.pdf
pins: I (in), O (out), T (in)

## OBUFT_PCI66_3
designator U?
Single 3-State Output Buffer with Active-Low Output Enable using the PCI66_3 standard; FPGAVendor: Xilinx; Published: 15-Sep-2003; Publisher: Altium Limited; HelpURL: http://toolbox.xilinx.com/docsan/xilinx7/books/docs/lib/lib.pdf
pins: I (in), O (out), T (in)

## OBUFT_PCIX
designator U?
Single 3-State Output Buffer with Active-Low Output Enable, Peripheral component interface, Output VCCO = 3.3; FPGAVendor: Xilinx; Published: 15-Sep-2003; Publisher: Altium Limited; HelpURL: http://toolbox.xilinx.com/docsan/xilinx7/books/docs/lib/lib.pdf
pins: I (in), O (out), T (in)

## OBUFT_S_2
designator U?
Single 3-State Output Buffer with Active-Low Output Enable using the LVTTL standard; FPGAVendor: Xilinx; Published: 15-Sep-2003; Publisher: Altium Limited; HelpURL: http://toolbox.xilinx.com/docsan/xilinx7/books/docs/lib/lib.pdf
pins: I (in), O (out), T (in)

## OBUFT_S_4
designator U?
Single 3-State Output Buffer with Active-Low Output Enable using the LVTTL standard; FPGAVendor: Xilinx; Published: 15-Sep-2003; Publisher: Altium Limited; HelpURL: http://toolbox.xilinx.com/docsan/xilinx7/books/docs/lib/lib.pdf
pins: I (in), O (out), T (in)

## OBUFT_S_6
designator U?
Single 3-State Output Buffer with Active-Low Output Enable using the S_6 standard; FPGAVendor: Xilinx; Published: 15-Sep-2003; Publisher: Altium Limited; HelpURL: http://toolbox.xilinx.com/docsan/xilinx7/books/docs/lib/lib.pdf
pins: I (in), O (out), T (in)

## OBUFT_S_8
designator U?
Single 3-State Output Buffer with Active-Low Output Enable using the S_8 standard; FPGAVendor: Xilinx; Published: 15-Sep-2003; Publisher: Altium Limited; HelpURL: http://toolbox.xilinx.com/docsan/xilinx7/books/docs/lib/lib.pdf
pins: I (in), O (out), T (in)

## OBUFT_S_12
designator U?
Single 3-State Output Buffer with Active-Low Output Enable using the LVTTL standard; FPGAVendor: Xilinx; Published: 15-Sep-2003; Publisher: Altium Limited; HelpURL: http://toolbox.xilinx.com/docsan/xilinx7/books/docs/lib/lib.pdf
pins: I (in), O (out), T (in)

## OBUFT_S_16
designator U?
Single 3-State Output Buffer with Active-Low Output Enable using the LVTTL standard; FPGAVendor: Xilinx; Published: 15-Sep-2003; Publisher: Altium Limited; HelpURL: http://toolbox.xilinx.com/docsan/xilinx7/books/docs/lib/lib.pdf
pins: I (in), O (out), T (in)

## OBUFT_S_24
designator U?
Single 3-State Output Buffer with Active-Low Output Enable using the LVTTL standard; FPGAVendor: Xilinx; Published: 15-Sep-2003; Publisher: Altium Limited; HelpURL: http://toolbox.xilinx.com/docsan/xilinx7/books/docs/lib/lib.pdf
pins: I (in), O (out), T (in)

## OBUFT_SSTL2_I
designator U?
Single 3-State Output Buffer with Active-Low Output Enable using the SSTL2_I standard; FPGAVendor: Xilinx; Published: 15-Sep-2003; Publisher: Altium Limited; HelpURL: http://toolbox.xilinx.com/docsan/xilinx7/books/docs/lib/lib.pdf
pins: I (in), O (out), T (in)

## OBUFT_SSTL2_I_DCI
designator U?
Single 3-State Output Buffer with Active-Low Output Enable, Stub-series terminated logic interface for SDRAM, on-chip Digital Controlled Impedance Output, VCCO = 2.5; FPGAVendor: Xilinx; Published: 15-Sep-2003; Publisher: Altium Limited; HelpURL: http://toolbox.xilinx.com/docsan/xilinx7/books/docs/lib/lib.pdf
pins: I (in), O (out), T (in)

## OBUFT_SSTL2_II
designator U?
Single 3-State Output Buffer with Active-Low Output Enable using the SSTL2_II standard; FPGAVendor: Xilinx; Published: 15-Sep-2003; Publisher: Altium Limited; HelpURL: http://toolbox.xilinx.com/docsan/xilinx7/books/docs/lib/lib.pdf
pins: I (in), O (out), T (in)

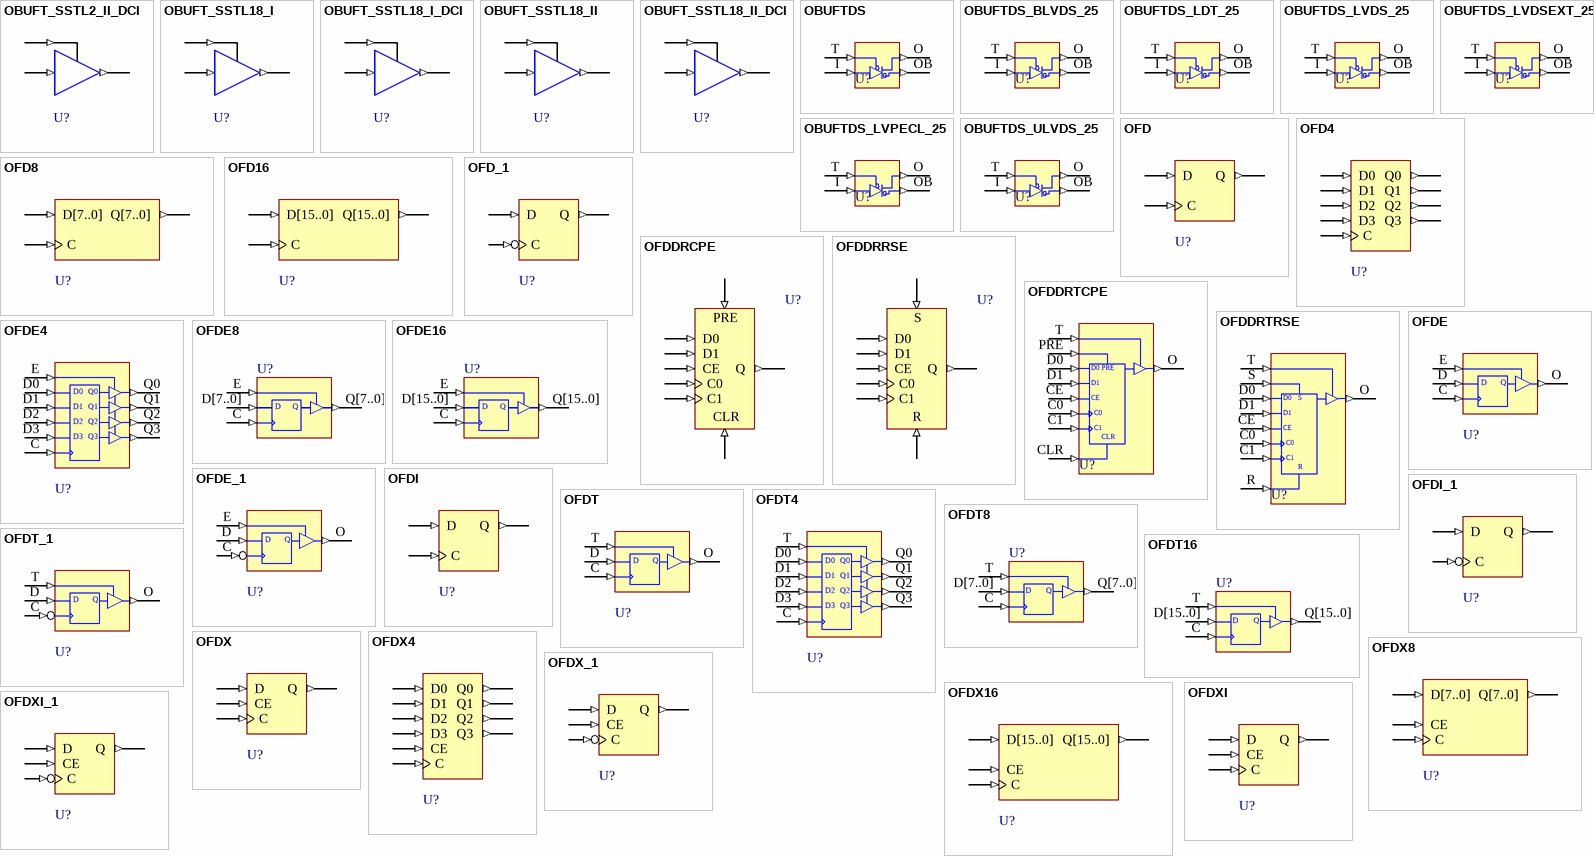
[diagram p30: symbols OBUFT_SSTL2_II_DCI to OFDXI_1]

## OBUFT_SSTL2_II_DCI
designator U?
Single 3-State Output Buffer with Active-Low Output Enable with Stub-series terminated logic interface for SDRAM with on-chip Digital Controlled Impedance, Output VCCO = 2.5; FPGAVendor: Xilinx; Published: 15-Sep-2003; Publisher: Altium Limited; HelpURL: http://toolbox.xilinx.com/docsan/xilinx7/books/docs/lib/lib.pdf
pins: I (in), O (out), T (in)

## OBUFT_SSTL18_I
designator U?
Single 3-State Output Buffer with Active-Low Output Enable using the SSTL18_I standard; FPGAVendor: Xilinx; Published: 15-Sep-2003; Publisher: Altium Limited; HelpURL: http://toolbox.xilinx.com/docsan/xilinx7/books/docs/lib/lib.pdf
pins: I (in), O (out), T (in)

## OBUFT_SSTL18_I_DCI
designator U?
Single 3-State Output Buffer with Active-Low Output Enable using the SSTL18_I_DCI standard; FPGAVendor: Xilinx; Published: 15-Sep-2003; Publisher: Altium Limited; HelpURL: http://toolbox.xilinx.com/docsan/xilinx7/books/docs/lib/lib.pdf
pins: I (in), O (out), T (in)